# EAGLE library part STM32F303CXT6 (library SmartMDC)
ST STM32F101/103 48pin LQFP
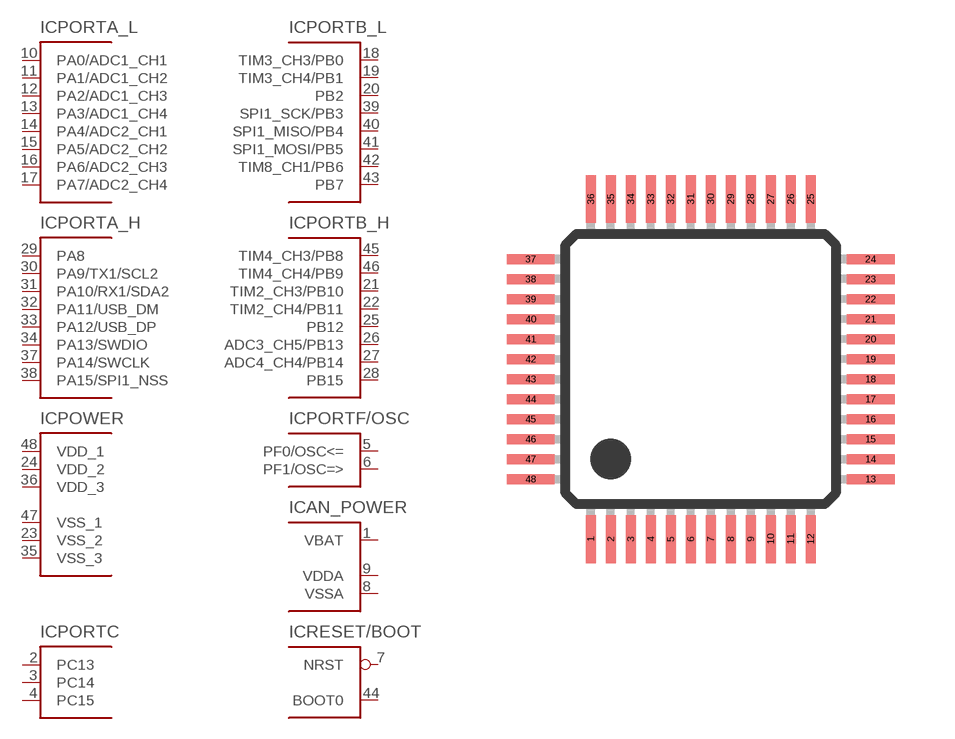
[diagram p2: symbol with the pads of LQFP48; footprint LQFP48]

Designator prefix IC; gates PORTA_L=PORT_A_L PORTA_H=PORT_A_H PORTB_L=PORT_B_L PORTB_H=PORT_B_H PORTF/OSC=PORT_F_2 AN_POWER=BAT_AN_M RESET/BOOT=BOOT_RST POWER=VCC_VDD_S PORTC=PORT_C_3

## STM32F303CXT6  [LQFP48]
1  AN_POWER:VBAT  pwr
2  PORTC:PC13
3  PORTC:PC14
4  PORTC:PC15
5  PORTF/OSC:PF0/OSC<=
6  PORTF/OSC:PF1/OSC=>
7  RESET/BOOT:NRST  in
8  AN_POWER:VSSA  pwr
9  AN_POWER:VDDA  pwr
10  PORTA_L:PA0/ADC1_CH1
11  PORTA_L:PA1/ADC1_CH2
12  PORTA_L:PA2/ADC1_CH3
13  PORTA_L:PA3/ADC1_CH4
14  PORTA_L:PA4/ADC2_CH1
15  PORTA_L:PA5/ADC2_CH2
16  PORTA_L:PA6/ADC2_CH3
17  PORTA_L:PA7/ADC2_CH4
18  PORTB_L:TIM3_CH3/PB0
19  PORTB_L:TIM3_CH4/PB1
20  PORTB_L:PB2
21  PORTB_H:TIM2_CH3/PB10
22  PORTB_H:TIM2_CH4/PB11
23  POWER:VSS_2  pwr
24  POWER:VDD_2  pwr
25  PORTB_H:PB12
26  PORTB_H:ADC3_CH5/PB13
27  PORTB_H:ADC4_CH4/PB14
28  PORTB_H:PB15
29  PORTA_H:PA8
30  PORTA_H:PA9/TX1/SCL2
31  PORTA_H:PA10/RX1/SDA2
32  PORTA_H:PA11/USB_DM
33  PORTA_H:PA12/USB_DP
34  PORTA_H:PA13/SWDIO
35  POWER:VSS_3  pwr
36  POWER:VDD_3  pwr
37  PORTA_H:PA14/SWCLK
38  PORTA_H:PA15/SPI1_NSS
39  PORTB_L:SPI1_SCK/PB3
40  PORTB_L:SPI1_MISO/PB4
41  PORTB_L:SPI1_MOSI/PB5
42  PORTB_L:TIM8_CH1/PB6
43  PORTB_L:PB7
44  RESET/BOOT:BOOT0  in
45  PORTB_H:TIM4_CH3/PB8
46  PORTB_H:TIM4_CH4/PB9
47  POWER:VSS_1  pwr
48  POWER:VDD_1  pwr

## Footprint LQFP48 (pad centres in mm)
LQFP48 Package
smd 0.25 x 1.2: 1 -2.75,-4.25; 2 -2.25,-4.25; 3 -1.75,-4.25; 4 -1.25,-4.25; 5 -0.75,-4.25; 6 -0.25,-4.25; 7 0.25,-4.25; 8 0.75,-4.25; 9 1.25,-4.25; 10 1.75,-4.25; 11 2.25,-4.25; 12 2.75,-4.25; 25 2.75,4.25; 26 2.25,4.25; 27 1.75,4.25; 28 1.25,4.25; 29 0.75,4.25; 30 0.25,4.25; 31 -0.25,4.25; 32 -0.75,4.25; 33 -1.25,4.25; 34 -1.75,4.25; 35 -2.25,4.25; 36 -2.75,4.25
smd 1.2 x 0.25: 13 4.25,-2.75; 14 4.25,-2.25; 15 4.25,-1.75; 16 4.25,-1.25; 17 4.25,-0.75; 18 4.25,-0.25; 19 4.25,0.25; 20 4.25,0.75; 21 4.25,1.25; 22 4.25,1.75; 23 4.25,2.25; 24 4.25,2.75; 37 -4.25,2.75; 38 -4.25,2.25; 39 -4.25,1.75; 40 -4.25,1.25; 41 -4.25,0.75; 42 -4.25,0.25; 43 -4.25,-0.25; 44 -4.25,-0.75; 45 -4.25,-1.25; 46 -4.25,-1.75; 47 -4.25,-2.25; 48 -4.25,-2.75